# Altium integrated library Infineon_Power_MOSFET.IntLib: 1448 symbols (part 44 of 47)
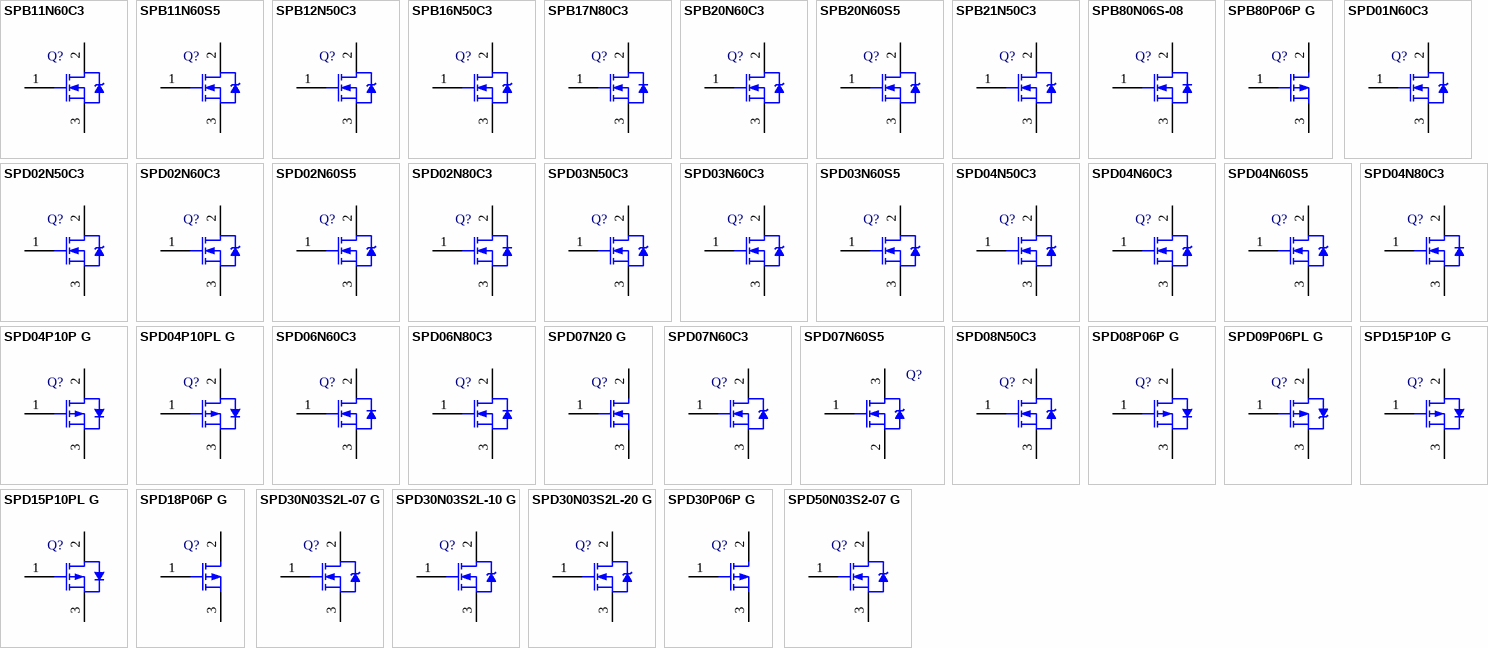
[diagram p80: symbols SPB11N60C3 to SPD50N03S2-07 G]

## SPD08P06P G
designator Q?
P-Channel SIPMOS Power-Transistor, -60 V VDS, -8.83 A ID, -55 to 175 degC, PG-TO252-3-1, Reel, Green; Manufacturer: Infineon; PartNumber: SPD08P06P G; Green: TRUE; ID (max): -8.83 A; IDpuls (max): -35.32 A; Pto t (max): 42 W; QG: -10 nC; RDS (on) (max): 300 mOhm; Rth: 3.6 K/W; VDS (max): -60 V; VGS(th) (max): -4 V; VGS(th) (min): -2.1 V; DatasheetVersion: Rev. 1.92; PackageVersion: Jan-10; PackageReference: PG-TO252-3-1; PackageDescription: 3-Pin Plastic (Green) Transistor Single Outline Package, 6.5 x 6.12 mm Body, 2.28 mm Pitch; Supplier 1: Mouser; Supplier Part Number 1: 726-SPD08P06PG; Supplier 2: Newark; Supplier Part Number 2: 47W3758; Supplier 3: Farnell; Supplier Part Number 3: 2212864; Supplier 4: Digi-Key; Supplier Part Number 4: SPD08P06PGINTR-ND; Supplier 5: Digi-Key; Supplier Part Number 5: SPD08P06PGINCT-ND; Supplier 6: Digi-Key; Supplier Part Number 6: SPD08P06PGINDKR-ND; Packing: Reel; RthJC (max): 3.6 K/W; Mounting Technology: Surface Mount; ComponentLink1Description: Manufacturer URL; ComponentLink1URL: http://www.infineon.com/; ComponentLink2Description: Datasheet; ComponentLink2URL: http://www.infineon.com/dgdl/SPD08P06P+G_Rev.1.92.pdf?folderId=db3a30431ed1d7b2011f4042f2ff4ec5&fileId=db3a30431ed1d7b2011f40433a224ec6; ComponentLink3Description: Package Specification; ComponentLink3URL: http://www.infineon.com/dgdl/TLE42744_DS_11.pdf?folderId=db3a304318f3fe290118f5a433570040&fileId=db3a304327b897500128012ccafe37d2&sId=db3a30443d67b5ca013d83f7c0ea327b
footprint INF-PG-TO252-3-1_N (DPAK, 3-Leads, Body 6.525x6.12mm, Pitch 2.28mm, IPC Medium Density)
footprint INF-PG-TO252-3-1_L (DPAK, 3-Leads, Body 6.525x6.12mm, Pitch 2.28mm, IPC High Density)
footprint INF-PG-TO252-3-1_M (DPAK, 3-Leads, Body 6.525x6.12mm, Pitch 2.28mm, IPC Low Density)
pins: 1 GATE, 2 DRAIN, 3 SOURCE

## SPD09P06PL G
designator Q?
P-Channel SIPMOS Power-Transistor, -60 V VDS, -9.7 A ID, -55 to 175 degC, PG-TO252-3-1, Reel, Green; Manufacturer: Infineon; PartNumber: SPD09P06PL G; Green: TRUE; ID (max): -9.7 A; IDpuls (max): -38.8 A; Pto t (max): 42 W; QG: 14 nC; RDS (on) (max): 250 mOhm; RDS (on) (max) (@4.5V): 400 mOhm; Rth: 3.6 K/W; VDS (max): -60 V; VGS(th) (max): -2 V; VGS(th) (min): -1 V; DatasheetVersion: Rev 2.6; PackageVersion: Jan-10; PackageReference: PG-TO252-3-1; PackageDescription: 3-Pin Plastic (Green) Transistor Single Outline Package, 6.5 x 6.12 mm Body, 2.28 mm Pitch; Supplier 1: Mouser; Supplier Part Number 1: 726-SPD09P06PLG; Supplier 2: Digi-Key; Supplier Part Number 2: SPD09P06PL GTR-ND; Supplier 3: Digi-Key; Supplier Part Number 3: SPD09P06PL GCT-ND; Supplier 4: Digi-Key; Supplier Part Number 4: SPD09P06PL GDKR-ND; Packing: Reel; RthJC (max): 3.6 K/W; Mounting Technology: Surface Mount; ComponentLink1Description: Manufacturer URL; ComponentLink1URL: http://www.infineon.com/; ComponentLink2Description: Datasheet; ComponentLink2URL: http://www.infineon.com/dgdl/SPD09P06PL+Rev2.6.pdf?folderId=db3a30431ed1d7b2011f4042f2ff4ec5&fileId=db3a30431ed1d7b2011f40486c6a4ed4; ComponentLink3Description: Package Specification; ComponentLink3URL: http://www.infineon.com/dgdl/TLE42744_DS_11.pdf?folderId=db3a304318f3fe290118f5a433570040&fileId=db3a304327b897500128012ccafe37d2&sId=db3a30443d67b5ca013d83f7c0ea327b
footprint INF-PG-TO252-3-1_N (DPAK, 3-Leads, Body 6.525x6.12mm, Pitch 2.28mm, IPC Medium Density)
footprint INF-PG-TO252-3-1_L (DPAK, 3-Leads, Body 6.525x6.12mm, Pitch 2.28mm, IPC High Density)
footprint INF-PG-TO252-3-1_M (DPAK, 3-Leads, Body 6.525x6.12mm, Pitch 2.28mm, IPC Low Density)
pins: 1 GATE, 2 DRAIN, 3 SOURCE

## SPD15P10P G
designator Q?
P-Channel SIPMOS Small-Signal-Transistor, -100 V VDS, -15 A ID, -55 to 175 degC, PG-TO252-3-1, Reel, Green; Manufacturer: Infineon; PartNumber: SPD15P10P G; Green: TRUE; ID (max): -15 A; IDpuls (max): -60 A; Mode: Enhancement; Polarity: P; Pto t (max): 128 W; QG: 37 nC; RDS (on) (max): 240 mOhm; Rth: 1.17 K/W; VDS (max): -100 V; VGS(th) (max): -4 V; VGS(th) (min): -2.1 V; DatasheetVersion: Rev. 1.8; PackageVersion: Jan-10; PackageReference: PG-TO252-3-1; PackageDescription: 3-Pin Plastic (Green) Transistor Single Outline Package, 6.5 x 6.12 mm Body, 2.28 mm Pitch; Supplier 1: Mouser; Supplier Part Number 1: 726-SPD15P10PG; Supplier 2: Newark; Supplier Part Number 2: 47W3759; Supplier 3: Farnell; Supplier Part Number 3: 2212847; Supplier 4: Digi-Key; Supplier Part Number 4: SPD15P10P G-ND; Packing: Reel; RthJC (max): 1.17 K/W; Technology: SIPMOS; Mounting Technology: Surface Mount; ComponentLink1Description: Manufacturer URL; ComponentLink1URL: http://www.infineon.com/; ComponentLink2Description: Datasheet; ComponentLink2URL: http://www.infineon.com/dgdl/SPD15P10P+G_Rev1.8.pdf?folderId=db3a304412b407950112b408e8c90004&fileId=db3a304412b407950112b42aa02743bc; ComponentLink3Description: Package Specification; ComponentLink3URL: http://www.infineon.com/dgdl/TLE42744_DS_11.pdf?folderId=db3a304318f3fe290118f5a433570040&fileId=db3a304327b897500128012ccafe37d2&sId=db3a30443d67b5ca013d83f7c0ea327b
footprint INF-PG-TO252-3-1_N (DPAK, 3-Leads, Body 6.525x6.12mm, Pitch 2.28mm, IPC Medium Density)
footprint INF-PG-TO252-3-1_L (DPAK, 3-Leads, Body 6.525x6.12mm, Pitch 2.28mm, IPC High Density)
footprint INF-PG-TO252-3-1_M (DPAK, 3-Leads, Body 6.525x6.12mm, Pitch 2.28mm, IPC Low Density)
pins: 1 GATE, 2 DRAIN, 3 SOURCE

## SPD15P10PL G
designator Q?
P-Channel SIPMOS Power-Transistor, -100 V VDS, -15 A ID, -55 to 175 degC, PG-TO252-3-1, Reel, Green; Manufacturer: Infineon; PartNumber: SPD15P10PL G; Green: TRUE; ID (max): -15 A; IDpuls (max): -60 A; Mode: Enhancement; Polarity: P; Pto t (max): 128 W; QG: 47 nC; RDS (on) (max): 200 mOhm; RDS (on) (max) (@4.5V): 270 mOhm; Rth: 1.17 K/W; VDS (max): -100 V; VGS(th) (max): -2 V; VGS(th) (min): -1 V; DatasheetVersion: Rev. 1.5; PackageVersion: Jan-10; PackageReference: PG-TO252-3-1; PackageDescription: 3-Pin Plastic (Green) Transistor Single Outline Package, 6.5 x 6.12 mm Body, 2.28 mm Pitch; Supplier 1: Mouser; Supplier Part Number 1: 726-SPD15P10PLG; Supplier 2: Newark; Supplier Part Number 2: 47W3760; Supplier 3: Farnell; Supplier Part Number 3: 2212846; Supplier 4: Digi-Key; Supplier Part Number 4: SPD15P10PL G-ND; Packing: Reel; Technology: SIPMOS; Mounting Technology: Surface Mount; ComponentLink1Description: Manufacturer URL; ComponentLink1URL: http://www.infineon.com/; ComponentLink2Description: Datasheet; ComponentLink2URL: http://www.infineon.com/dgdl/SPD15P10PL%2BG_Rev1.5.pdf?folderId=db3a304314dca38901154a72e3951a65&fileId=db3a30433c1a8752013c39ff5f2e4af3; ComponentLink3Description: Package Specification; ComponentLink3URL: http://www.infineon.com/dgdl/TLE42744_DS_11.pdf?folderId=db3a304318f3fe290118f5a433570040&fileId=db3a304327b897500128012ccafe37d2&sId=db3a30443d67b5ca013d83f7c0ea327b
footprint INF-PG-TO252-3-1_N (DPAK, 3-Leads, Body 6.525x6.12mm, Pitch 2.28mm, IPC Medium Density)
footprint INF-PG-TO252-3-1_L (DPAK, 3-Leads, Body 6.525x6.12mm, Pitch 2.28mm, IPC High Density)
footprint INF-PG-TO252-3-1_M (DPAK, 3-Leads, Body 6.525x6.12mm, Pitch 2.28mm, IPC Low Density)
pins: 1 GATE, 2 DRAIN, 3 SOURCE

## SPD18P06P G
designator Q?
P-Channel SIPMOS Power-Transistor, -60 V VDS, -18.6 A ID, -55 to 175 degC, PG-TO252-3-1, Reel, Green; Manufacturer: Infineon; PartNumber: SPD18P06P G; Green: TRUE; ID (max): -18.6 A; IDpuls (max): -74.4 A; Pto t (max): 80 W; QG: 22 nC; RDS (on) (max): 130 mOhm; Rth: 1.85 K/W; VDS (max): -60 V; VGS(th) (max): -4 V; VGS(th) (min): -2.1 V; DatasheetVersion: Rev 3.4; PackageVersion: Jan-10; PackageReference: PG-TO252-3-1; PackageDescription: 3-Pin Plastic (Green) Transistor Single Outline Package, 6.5 x 6.12 mm Body, 2.28 mm Pitch; Supplier 1: Mouser; Supplier Part Number 1: 726-SPD18P06P; Supplier 2: Newark; Supplier Part Number 2: 47W3761; Supplier 3: Farnell; Supplier Part Number 3: 2212859; Supplier 4: Digi-Key; Supplier Part Number 4: SPD18P06P GTR-ND; Supplier 5: Digi-Key; Supplier Part Number 5: SPD18P06P GCT-ND; Supplier 6: Digi-Key; Supplier Part Number 6: SPD18P06P GDKR-ND; Packing: Reel; RthJC (max): 1.85 K/W; Mounting Technology: Surface Mount; ComponentLink1Description: Manufacturer URL; ComponentLink1URL: http://www.infineon.com/; ComponentLink2Description: Datasheet; ComponentLink2URL: http://www.infineon.com/dgdl/SPD18P06P_Rev.3.4_.pdf?folderId=db3a30431ed1d7b2011f4042f2ff4ec5&fileId=db3a30431ed1d7b2011f404c85eb4ee3; ComponentLink3Description: Package Specification; ComponentLink3URL: http://www.infineon.com/dgdl/TLE42744_DS_11.pdf?folderId=db3a304318f3fe290118f5a433570040&fileId=db3a304327b897500128012ccafe37d2&sId=db3a30443d67b5ca013d83f7c0ea327b
footprint INF-PG-TO252-3-1_N (DPAK, 3-Leads, Body 6.525x6.12mm, Pitch 2.28mm, IPC Medium Density)
footprint INF-PG-TO252-3-1_L (DPAK, 3-Leads, Body 6.525x6.12mm, Pitch 2.28mm, IPC High Density)
footprint INF-PG-TO252-3-1_M (DPAK, 3-Leads, Body 6.525x6.12mm, Pitch 2.28mm, IPC Low Density)
pins: 1 G, 2 D, 3 S

## SPD30N03S2L-07 G
designator Q?
N-Channel OptiMOS Power-Transistor, 30 V VDS, 30 A ID, -55 to 175 degC, PG-TO252-3-11, Reel, Green; Manufacturer: Infineon; PartNumber: SPD30N03S2L-07 G; Green: TRUE; ID (max): 30 A; IDpuls (max): 120 A; Polarity: N; Ptot (max): 136 W; QG: 51 nC; RDS (on) (max): 6.7 mOhm; RDS (on) (max) (@4.5V): 9.8 mOhm; Rth: 1.1 K/W; RthJA (max): 100 K/W; VDS (max): 30 V; VGS(th) (max): 2 V; VGS(th) (min): 1.2 V; PackageVersion: Rev. 02, 03/2007; PackageReference: PG-TO252-3-11; PackageDescription: 3-Pin Plastic (Green) Transistor Single Outline Package, 6.57 x 6.1 mm Body, 2.29 mm Pitch; Supplier 1: Digi-Key; Supplier Part Number 1: SPD30N03S2L-07 G-ND; Packing: Reel; RthJC (max): 1.1 K/W; Mounting Technology: Surface Mount; ComponentLink1Description: Manufacturer URL; ComponentLink1URL: http://www.infineon.com/; ComponentLink2Description: Datasheet; ComponentLink2URL: http://www.infineon.com/dgdl/SPD30N03S2L-07+rev+1.2.pdf?folderId=db3a304313b8b5a60113cee8763b02d7&fileId=db3a30431b3e89eb011b92c6dcba0f89; ComponentLink3Description: Package Specification; ComponentLink3URL: http://www.infineon.com/dgdl/IPD160N04L_rev1.0.pdf?folderId=db3a3043163797a6011643468e7505a4&fileId=db3a3043163797a60116436401cf05cf
footprint INF-PG-TO252-3-11_A_N (DPAK, 3-Leads, Body 6.57x6.1mm, Pitch 2.29mm, IPC Medium Density)
footprint INF-PG-TO252-3-11_A_L (DPAK, 3-Leads, Body 6.57x6.1mm, Pitch 2.29mm, IPC High Density)
footprint INF-PG-TO252-3-11_A_M (DPAK, 3-Leads, Body 6.57x6.1mm, Pitch 2.29mm, IPC Low Density)
pins: 1 GATE, 2 DRAIN, 3 SOURCE

## SPD30N03S2L-10 G
designator Q?
N-Channel OptiMOS Power-Transistor, 30 V VDS, 30 A ID, -55 to 175 degC, PG-TO252-3-11, Reel, Green; Manufacturer: Infineon; PartNumber: SPD30N03S2L-10 G; Green: TRUE; ID (max): 30 A; IDpuls (max): 120 A; Polarity: N; Ptot (max): 100 W; QG: 31.4 nC; RDS (on) (max): 10 mOhm; RDS (on) (max) (@4.5V): 14.6 mOhm; Rth: 1.5 K/W; RthJA (max): 75 K/W; RthJC (max): 1.5 K/W; VDS (max): 30 V; VGS(th) (max): 2 V; VGS(th) (min): 1.2 V; PackageVersion: Rev. 02, 03/2007; PackageReference: PG-TO252-3-11; PackageDescription: 3-Pin Plastic (Green) Transistor Single Outline Package, 6.57 x 6.1 mm Body, 2.29 mm Pitch; Supplier 1: Mouser; Supplier Part Number 1: 726-SPD30N03S2L10G; Supplier 2: Digi-Key; Supplier Part Number 2: SPD30N03S2L-10 G-ND; Packing: Reel; Mounting Technology: Surface Mount; ComponentLink1Description: Manufacturer URL; ComponentLink1URL: http://www.infineon.com/; ComponentLink2Description: Datasheet; ComponentLink2URL: http://www.infineon.com/dgdl/SPD30N03S2L-10+rev+1.2.pdf?folderId=db3a304313b8b5a60113cee8763b02d7&fileId=db3a30431b3e89eb011b96e752ea0e08; ComponentLink3Description: Package Specification; ComponentLink3URL: http://www.infineon.com/dgdl/IPD160N04L_rev1.0.pdf?folderId=db3a3043163797a6011643468e7505a4&fileId=db3a3043163797a60116436401cf05cf
footprint INF-PG-TO252-3-11_A_N (DPAK, 3-Leads, Body 6.57x6.1mm, Pitch 2.29mm, IPC Medium Density)
footprint INF-PG-TO252-3-11_A_L (DPAK, 3-Leads, Body 6.57x6.1mm, Pitch 2.29mm, IPC High Density)
footprint INF-PG-TO252-3-11_A_M (DPAK, 3-Leads, Body 6.57x6.1mm, Pitch 2.29mm, IPC Low Density)
pins: 1 GATE, 2 DRAIN, 3 SOURCE

## SPD30N03S2L-20 G
designator Q?
N-Channel OptiMOS Power-Transistor, 30 V VDS, 30 A ID, -55 to 175 degC, PG-TO252-3-11, Reel, Green; Manufacturer: Infineon; PartNumber: SPD30N03S2L-20 G; Green: TRUE; ID (max): 30 A; IDpuls (max): 120 A; Polarity: N; Ptot (max): 60 W; QG: 14.3 nC; RDS (on) (max): 20 mOhm; RDS (on) (max) (@4.5V): 31 mOhm; Rth: 2.5 K/W; RthJA (max): 100 K/W; VDS (max): 30 V; VGS(th) (max): 2 V; VGS(th) (min): 1.2 V; PackageVersion: Rev. 02, 03/2007; PackageReference: PG-TO252-3-11; PackageDescription: 3-Pin Plastic (Green) Transistor Single Outline Package, 6.57 x 6.1 mm Body, 2.29 mm Pitch; Supplier 1: Digi-Key; Supplier Part Number 1: SPD30N03S2L-20 GTR-ND; Supplier 2: Digi-Key; Supplier Part Number 2: SPD30N03S2L-20 GCT-ND; Supplier 3: Digi-Key; Supplier Part Number 3: SPD30N03S2L-20 GDKR-ND; Packing: Reel; RthJC (max): 2.5 K/W; Mounting Technology: Surface Mount; ComponentLink1Description: Manufacturer URL; ComponentLink1URL: http://www.infineon.com/; ComponentLink2Description: Datasheet; ComponentLink2URL: http://www.infineon.com/dgdl/SPD30N03S2L-20+rev+1.2.pdf?folderId=db3a304313b8b5a60113cee8763b02d7&fileId=db3a30431b3e89eb011b96f227b90e19; ComponentLink3Description: Package Specification; ComponentLink3URL: http://www.infineon.com/dgdl/IPD160N04L_rev1.0.pdf?folderId=db3a3043163797a6011643468e7505a4&fileId=db3a3043163797a60116436401cf05cf
footprint INF-PG-TO252-3-11_A_N (DPAK, 3-Leads, Body 6.57x6.1mm, Pitch 2.29mm, IPC Medium Density)
footprint INF-PG-TO252-3-11_A_L (DPAK, 3-Leads, Body 6.57x6.1mm, Pitch 2.29mm, IPC High Density)
footprint INF-PG-TO252-3-11_A_M (DPAK, 3-Leads, Body 6.57x6.1mm, Pitch 2.29mm, IPC Low Density)
pins: 1 GATE, 2 DRAIN, 3 SOURCE

## SPD30P06P G
designator Q?
P-Channel SIPMOS Power-Transistor, -60 V VDS, -30 A ID, -55 to 175 degC, PG-TO252-3-1, Reel, Green; Manufacturer: Infineon; PartNumber: SPD30P06P G; Green: TRUE; ID (max): -30 A; IDpuls (max): -120 A; Pto t (max): 125 W; QG: 32 nC; RDS (on) (max): 75 mOhm; Rth: 1.2 K/W; VDS (max): -60 V; VGS(th) (max): -4 V; VGS(th) (min): -2.1 V; DatasheetVersion: Rev. 2.3; PackageVersion: Jan-10; PackageReference: PG-TO252-3-1; PackageDescription: 3-Pin Plastic (Green) Transistor Single Outline Package, 6.5 x 6.12 mm Body, 2.28 mm Pitch; Supplier 1: Mouser; Supplier Part Number 1: 726-SPD30P06PG; Supplier 2: Digi-Key; Supplier Part Number 2: SPD30P06P GTR-ND; Supplier 3: Digi-Key; Supplier Part Number 3: SPD30P06P GCT-ND; Supplier 4: Digi-Key; Supplier Part Number 4: SPD30P06P GDKR-ND; Packing: Reel; RthJC (max): 1.2 K/W; Mounting Technology: Surface Mount; ComponentLink1Description: Manufacturer URL; ComponentLink1URL: http://www.infineon.com/; ComponentLink2Description: Datasheet; ComponentLink2URL: http://www.infineon.com/dgdl/SPD30P06P_Rev.2.3_pdf.pdf?folderId=db3a30431ed1d7b2011f4042f2ff4ec5&fileId=db3a30431ed1d7b2011f404fbc7e4ef4; ComponentLink3Description: Package Specification; ComponentLink3URL: http://www.infineon.com/dgdl/TLE42744_DS_11.pdf?folderId=db3a304318f3fe290118f5a433570040&fileId=db3a304327b897500128012ccafe37d2&sId=db3a30443d67b5ca013d83f7c0ea327b
footprint INF-PG-TO252-3-1_N (DPAK, 3-Leads, Body 6.525x6.12mm, Pitch 2.28mm, IPC Medium Density)
footprint INF-PG-TO252-3-1_L (DPAK, 3-Leads, Body 6.525x6.12mm, Pitch 2.28mm, IPC High Density)
footprint INF-PG-TO252-3-1_M (DPAK, 3-Leads, Body 6.525x6.12mm, Pitch 2.28mm, IPC Low Density)
pins: 1 G, 2 D, 3 S

## SPD50N03S2-07 G
designator Q?
N-Channel OptiMOS Power-Transistor, 30 V VDS, 50 A ID, -55 to 175 degC, PG-TO252-3-11, Reel, Green; Manufacturer: Infineon; PartNumber: SPD50N03S2-07 G; Green: TRUE; ID (max): 50 A; IDpuls (max): 200 A; Polarity: N; Ptot (max): 136 W; QG: 35 nC; RDS (on) (max): 7.3 mOhm; Rth: 1.1 K/W; RthJA (max): 100 K/W; VDS (max): 30 V; VGS(th) (max): 4 V; VGS(th) (min): 2.1 V; PackageVersion: Rev. 02, 03/2007; PackageReference: PG-TO252-3-11; PackageDescription: 3-Pin Plastic (Green) Transistor Single Outline Package, 6.57 x 6.1 mm Body, 2.29 mm Pitch; Supplier 1: Mouser; Supplier Part Number 1: 726-SPD50N03726S207G; Supplier 2: Digi-Key; Supplier Part Number 2: SPD50N03S2-07 GTR-ND; Supplier 3: Digi-Key; Supplier Part Number 3: SPD50N03S2-07 GCT-ND; Supplier 4: Digi-Key; Supplier Part Number 4: SPD50N03S2-07 GDKR-ND; Packing: Reel; RthJC (max): 1.1 K/W; Mounting Technology: Surface Mount; ComponentLink1Description: Manufacturer URL; ComponentLink1URL: http://www.infineon.com/; ComponentLink2Description: Datasheet; ComponentLink2URL: http://www.infineon.com/dgdl/SPD50N03S2-07+rev+1.2.pdf?folderId=db3a304313b8b5a60113cee8763b02d7&fileId=db3a30431b3e89eb011b97117df80e2a; ComponentLink3Description: Package Specification; ComponentLink3URL: http://www.infineon.com/dgdl/IPD160N04L_rev1.0.pdf?folderId=db3a3043163797a6011643468e7505a4&fileId=db3a3043163797a60116436401cf05cf
footprint INF-PG-TO252-3-11_A_N (DPAK, 3-Leads, Body 6.57x6.1mm, Pitch 2.29mm, IPC Medium Density)
footprint INF-PG-TO252-3-11_A_L (DPAK, 3-Leads, Body 6.57x6.1mm, Pitch 2.29mm, IPC High Density)
footprint INF-PG-TO252-3-11_A_M (DPAK, 3-Leads, Body 6.57x6.1mm, Pitch 2.29mm, IPC Low Density)
pins: 1 GATE, 2 DRAIN, 3 SOURCE

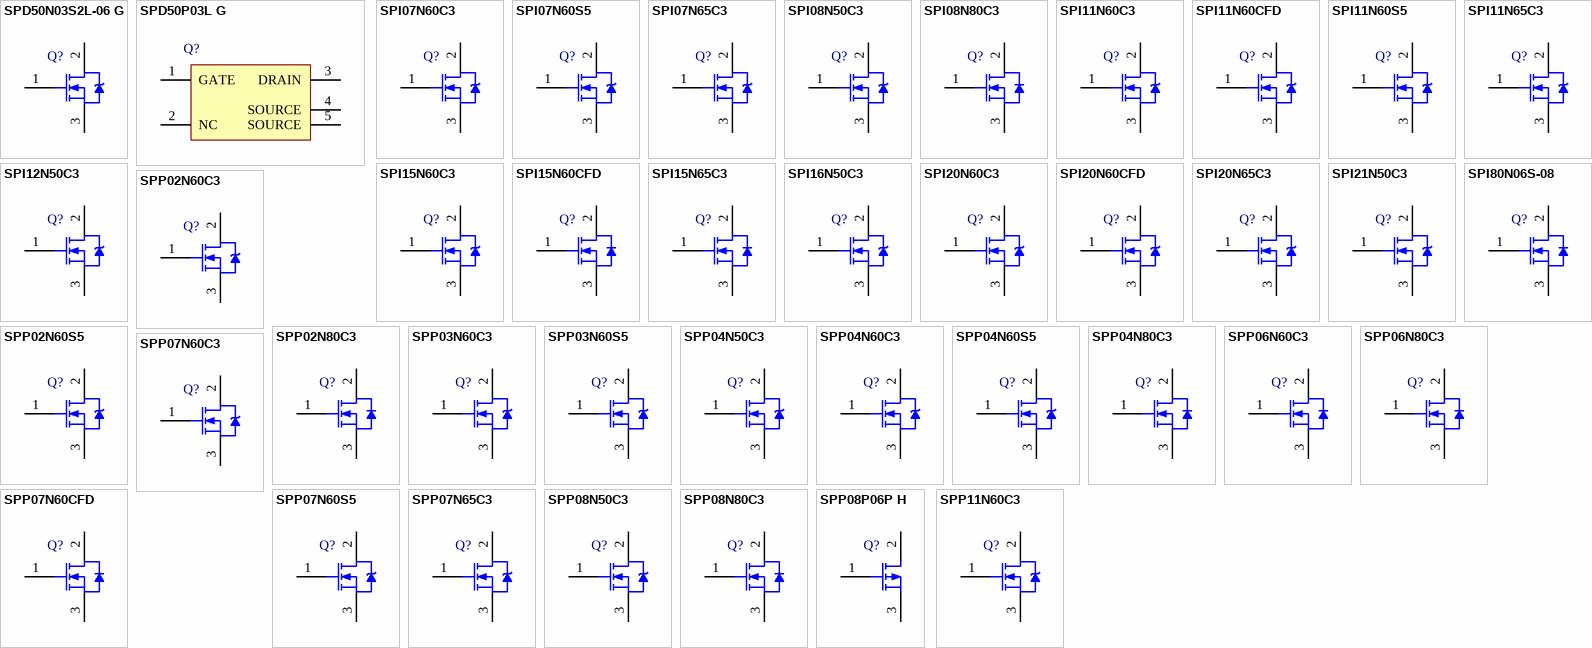
[diagram p35: symbols SPD50N03S2L-06 G to SPP11N60C3]

## SPD50N03S2L-06 G
designator Q?
N-Channel OptiMOS Power-Transistor, 30 V VDS, 50 A ID, -55 to 175 degC, PG-TO252-3-11, Reel, Green; Manufacturer: Infineon; PartNumber: SPD50N03S2L-06 G; Green: TRUE; ID (max): 50 A; IDpuls (max): 200 A; Polarity: N; Ptot (max): 136 W; QG: 52 nC; RDS (on) (max): 6.4 mOhm; RDS (on) (max) (@4.5V): 9.2 mOhm; Rth: 1.1 K/W; RthJA (max): 100 K/W; VDS (max): 30 V; VGS(th) (max): 2 V; VGS(th) (min): 1.2 V; PackageVersion: Rev. 02, 03/2007; PackageReference: PG-TO252-3-11; PackageDescription: 3-Pin Plastic (Green) Transistor Single Outline Package, 6.57 x 6.1 mm Body, 2.29 mm Pitch; Supplier 1: Mouser; Supplier Part Number 1: 726-SPD50N03726S2L6G; Supplier 2: Digi-Key; Supplier Part Number 2: SPD50N03S2L-06 GTR-ND; Supplier 3: Digi-Key; Supplier Part Number 3: SPD50N03S2L-06 GCT-ND; Supplier 4: Digi-Key; Supplier Part Number 4: SPD50N03S2L-06 GDKR-ND; Packing: Reel; RthJC (max): 1.1 K/W; Mounting Technology: Surface Mount; ComponentLink1Description: Manufacturer URL; ComponentLink1URL: http://www.infineon.com/; ComponentLink2Description: Datasheet; ComponentLink2URL: http://www.infineon.com/dgdl/SPD50N03S2L-06+rev+1.2.pdf?folderId=db3a304313b8b5a60113cee8763b02d7&fileId=db3a30431b3e89eb011b9718a1a20e3c; ComponentLink3Description: Package Specification; ComponentLink3URL: http://www.infineon.com/dgdl/IPD160N04L_rev1.0.pdf?folderId=db3a3043163797a6011643468e7505a4&fileId=db3a3043163797a60116436401cf05cf
footprint INF-PG-TO252-3-11_A_N (DPAK, 3-Leads, Body 6.57x6.1mm, Pitch 2.29mm, IPC Medium Density)
footprint INF-PG-TO252-3-11_A_L (DPAK, 3-Leads, Body 6.57x6.1mm, Pitch 2.29mm, IPC High Density)
footprint INF-PG-TO252-3-11_A_M (DPAK, 3-Leads, Body 6.57x6.1mm, Pitch 2.29mm, IPC Low Density)
pins: 1 GATE, 2 DRAIN, 3 SOURCE

## SPD50P03L G
designator Q?
P-Channel OptiMOS P Power-Transistor, -30 V VDS, -50 A ID, -55 to 175 degC, PG-TO252-5-1, Reel, Green; Manufacturer: Infineon; PartNumber: SPD50P03L G; Green: TRUE; ID (max): -50 A; IDpuls (max): -200 A; Pto t (max): 150 W; QG: -95 nC; RDS (on) (max): 7 mOhm; RDS (on) (max) (@4.5V): 12.5 mOhm; Rth: 1 K/W; VDS (max): -30 V; VGS(th) (max): -2 V; VGS(th) (min): -1 V; DatasheetVersion: Rev. 1.9; PackageReference: PG-TO252-5-1; PackageDescription: 5-Pin Plastic (Green) Transistor Single Outline Package, 6.5 x 6.12 mm Body, 1.14 mm Pitch; Supplier 1: Mouser; Supplier Part Number 1: 726-SPD50P03LG; Supplier 2: Digi-Key; Supplier Part Number 2: SPD50P03LGINTR-ND; Supplier 3: Digi-Key; Supplier Part Number 3: SPD50P03LGINCT-ND; Supplier 4: Digi-Key; Supplier Part Number 4: SPD50P03LGINDKR-ND; Packing: Reel; RthJC (max): 1 K/W; Mounting Technology: Surface Mount; ComponentLink1Description: Manufacturer URL; ComponentLink1URL: http://www.infineon.com/; ComponentLink2Description: Datasheet; ComponentLink2URL: http://www.infineon.com/dgdl/SPD50P03LG_Rev+1.9.pdf?folderId=db3a304314dca38901154a7313d21a66&fileId=db3a3043156fd5730115c75829fc0ffa; ComponentLink3Description: Package Specification; ComponentLink3URL: http://www.infineon.com/cms/packages/SMD_-_Surface_Mounted_Devices/P-PG-TO252/P-PG-TO252-05-001.html?__locale=en
footprint INF-PG-TO252-5-1_N (DPAK, 5-Leads, Body 6.5x6.12mm, Pitch 1.14mm, IPC Medium Density)
footprint INF-PG-TO252-5-1_L (DPAK, 5-Leads, Body 6.5x6.12mm, Pitch 1.14mm, IPC High Density)
footprint INF-PG-TO252-5-1_M (DPAK, 5-Leads, Body 6.5x6.12mm, Pitch 1.14mm, IPC Low Density)
pins: 1 GATE, 2 NC, 3 DRAIN, 4 SOURCE, 5 SOURCE

## SPI07N60C3
designator Q?
N-Channel CoolMOS Power-Transistor, 600 V VDS, 7.3 A ID, -55 to 150 degC, PG-TO262-3-1, Tube, Green; Manufacturer: Infineon; PartNumber: SPI07N60C3; Green: TRUE; ID (max): 7.3 A; IDpuls (max): 21.9 A; Polarity: N; Ptot (max): 83 W; QG: 21 nC; RDS (on) (max): 600 mOhm; Rth: 1.5 K/W; RthJA (max): 62 K/W; VDS (max): 600 V; VGS(th) (max): 3.9 V; VGS(th) (min): 2.1 V; DatasheetVersion: Rev. 3.2; PackageReference: PG-TO262-3-1; PackageDescription: 3-Pin Plastic (Green) Transistor Single Outline Package, 10 x 9.25 mm Body, 2.54 mm Pitch; Supplier 1: Mouser; Supplier Part Number 1: 726-SPI07N60C3; Supplier 2: Digi-Key; Supplier Part Number 2: SPI07N60C3IN-ND; Packing: Tube; RthJC (max): 1.5 K/W; Technology: CoolMOS C3; Mounting Technology: Through Hole; ComponentLink1Description: Manufacturer URL; ComponentLink1URL: http://www.infineon.com/; ComponentLink2Description: Datasheet; ComponentLink2URL: http://www.infineon.com/dgdl/SPP_A_I07N60C3_Rev.3.2.pdf?folderId=db3a304412b407950112b408e8c90004&fileId=db3a304412b407950112b42de18b490c; ComponentLink3Description: Package Specification; ComponentLink3URL: http://www.infineon.com/cms/packages/Leaded_and_through-hole/P-PG-TO262/P-PG-TO262-3-1.html?__locale=en
footprint INF-PG-TO262-3-1 (FM, 3-Leads, Body 10x4.4mm, Pitch 2.54mm)
pins: 1 GATE, 2 DRAIN, 3 SOURCE

## SPI07N60S5
designator Q?
Cool MOS Power Transistor, 600 V VDS, 7.3 A ID, PG-TO262-3-1, Tube, Green; Manufacturer: Infineon; PartNumber: SPI07N60S5; Green: TRUE; ID (max): 7.3 A; Polarity: N; RDS (on) (max): 600 mOhm; VDS (max): 600 V; DatasheetVersion: Rev. 2.7; PackageVersion: Rev. 03, 05/2006; PackageReference: PG-TO262-3-1; PackageDescription: 3-Pin Plastic (Green) Transistor Single Outline Package, 10.03 x 8.98 mm Body, 2.54 mm Pitch; Supplier 1: Mouser; Supplier Part Number 1: 726-SPI07N60S5; Supplier 2: Digi-Key; Supplier Part Number 2: SPI07N60S5IN-ND; Halogen-free: FALSE; Packing: Tube; Mounting Technology: Through Hole; ComponentLink1Description: Manufacturer URL; ComponentLink1URL: http://www.infineon.com/; ComponentLink2Description: Datasheet; ComponentLink2URL: http://www.infineon.com/dgdl/SPP_I07N60S5_Rev.2.7.pdf?folderId=db3a304412b407950112b408e8c90004&fileId=db3a304412b407950112b42c81144713; ComponentLink3Description: Package Specification; ComponentLink3URL: http://www.infineon.com/dgdl/DS_IPX65R420CFD_2_4.pdf?folderId=db3a3043156fd5730115c736bcc70ff2&fileId=db3a30432f91014f012f9c293f1a7399
footprint INF-PG-TO262-3-1_A (FM, 3-Leads, Body 10.03x4.436mm, Pitch 2.54mm)
pins: 1 GATE, 2 DRAIN, 3 SOURCE

## SPI07N65C3
designator Q?
N-Channel CoolMOS Power-Transistor, 650 V VDS, 7.3 A ID, -55 to 150 degC, PG-TO262-3-1, Tube, Green; Manufacturer: Infineon; PartNumber: SPI07N65C3; Green: TRUE; ID (max): 7.3 A; IDpuls (max): 21.9 A; Mode: Enhancement; Polarity: N; Ptot (max): 83 W; QG: 21 nC; RDS (on) (max): 600 mOhm; Rth: 1.5 K/W; RthJA (max): 62 K/W; VDS (max): 650 V; VGS(th) (max): 3.9 V; VGS(th) (min): 2.1 V; DatasheetVersion: Rev. 1.91; PackageReference: PG-TO262-3-1; PackageDescription: 3-Pin Plastic (Green) Transistor Single Outline Package, 10 x 9.25 mm Body, 2.54 mm Pitch; Supplier 1: Mouser; Supplier Part Number 1: 726-SPI07N65C3; Supplier 2: Digi-Key; Supplier Part Number 2: SPI07N65C3IN-ND; Packing: Tube; RthJC (max): 1.5 K/W; Technology: CoolMOS C3; Mounting Technology: Through Hole; ComponentLink1Description: Manufacturer URL; ComponentLink1URL: http://www.infineon.com/; ComponentLink2Description: Datasheet; ComponentLink2URL: http://www.infineon.com/dgdl/SPP_A_I07N65C3_Rev.1.91.pdf?folderId=db3a304412b407950112b408e8c90004&fileId=db3a304412b407950112b42ea7e74a0b; ComponentLink3Description: Package Specification; ComponentLink3URL: http://www.infineon.com/cms/packages/Leaded_and_through-hole/P-PG-TO262/P-PG-TO262-3-1.html?__locale=en
footprint INF-PG-TO262-3-1 (FM, 3-Leads, Body 10x4.4mm, Pitch 2.54mm)
pins: 1 GATE, 2 DRAIN, 3 SOURCE

## SPI08N50C3
designator Q?
N-Channel CoolMOS Power-Transistor, 500 V VDS, 7.6 A ID, -55 to 150 degC, PG-TO262-3-1, Tube, Green; Manufacturer: Infineon; PartNumber: SPI08N50C3; Green: TRUE; ID (max): 7.6 A; IDpuls (max): 22.8 A; Polarity: N; Ptot (max): 83 W; QG: 32 nC; RDS (on) (max): 600 mOhm; Rth: 1.5 K/W; RthJA (max): 62 K/W; VDS (max): 500 V; VGS(th) (max): 3.9 V; VGS(th) (min): 2.1 V; DatasheetVersion: Rev. 2.91; PackageReference: PG-TO262-3-1; PackageDescription: 3-Pin Plastic (Green) Transistor Single Outline Package, 10 x 9.25 mm Body, 2.54 mm Pitch; Supplier 1: Mouser; Supplier Part Number 1: 726-SPI08N50C3; Supplier 2: Digi-Key; Supplier Part Number 2: SPI08N50C3IN-ND; Packing: Tube; RthJC (max): 1.5 K/W; Technology: CoolMOS C3; Mounting Technology: Through Hole; ComponentLink1Description: Manufacturer URL; ComponentLink1URL: http://www.infineon.com/; ComponentLink2Description: Datasheet; ComponentLink2URL: http://www.infineon.com/dgdl/SPP_I_A08N50C3_Rev.2.91.pdf?folderId=db3a304412b407950112b408e8c90004&fileId=db3a304412b407950112b42d13a947ff; ComponentLink3Description: Package Specification; ComponentLink3URL: http://www.infineon.com/cms/packages/Leaded_and_through-hole/P-PG-TO262/P-PG-TO262-3-1.html?__locale=en
footprint INF-PG-TO262-3-1 (FM, 3-Leads, Body 10x4.4mm, Pitch 2.54mm)
pins: 1 GATE, 2 DRAIN, 3 SOURCE

## SPI08N80C3
designator Q?
N-Channel CoolMOS Power-Transistor, 800 V VDS, 8 A ID, -55 to 150 degC, PG-TO262-3-1, Tube, Green; Manufacturer: Infineon; PartNumber: SPI08N80C3; Green: TRUE; ID (max): 8 A; IDpuls (max): 24 A; Polarity: N; Ptot (max): 104 W; QG: 45 nC; RDS (on) (max): 650 mOhm; Rth: 1.2 K/W; RthJA (max): 62 K/W; VDS (max): 800 V; VGS(th) (max): 3.9 V; VGS(th) (min): 2.1 V; DatasheetVersion: Rev. 2.91; PackageReference: PG-TO262-3-1; PackageDescription: 3-Pin Plastic (Green) Transistor Single Outline Package, 10 x 9.25 mm Body, 2.54 mm Pitch; Supplier 1: Mouser; Supplier Part Number 1: 726-SPI08N80C3; Supplier 2: Digi-Key; Supplier Part Number 2: SPI08N80C3IN-ND; Halogen-free: TRUE; Packing: Tube; RthJC (max): 1.2 K/W; Technology: CoolMOS C3; Mounting Technology: Through Hole; ComponentLink1Description: Manufacturer URL; ComponentLink1URL: http://www.infineon.com/; ComponentLink2Description: Datasheet; ComponentLink2URL: http://www.infineon.com/dgdl/SPI08N80C3_rev2.91.pdf?folderId=db3a3043163797a6011638491238009b&fileId=db3a30432313ff5e0123a8e336925c47; ComponentLink3Description: Package Specification; ComponentLink3URL: http://www.infineon.com/cms/packages/Leaded_and_through-hole/P-PG-TO262/P-PG-TO262-3-1.html?__locale=en
footprint INF-PG-TO262-3-1 (FM, 3-Leads, Body 10x4.4mm, Pitch 2.54mm)
pins: 1 GATE, 2 DRAIN, 3 SOURCE

## SPI11N60C3
designator Q?
N-Channel CoolMOS Power-Transistor, 600 V VDS, 11 A ID, -55 to 150 degC, PG-TO262-3-1, Tube, Green; Manufacturer: Infineon; PartNumber: SPI11N60C3; Green: TRUE; ID (max): 11 A; IDpuls (max): 33 A; Polarity: N; Ptot (max): 125 W; QG: 45 nC; RDS (on) (max): 380 mOhm; Rth: 1 K/W; RthJA (max): 62 K/W; VDS (max): 600 V; VGS(th) (max): 3.9 V; VGS(th) (min): 2.1 V; DatasheetVersion: Rev. 3.3; PackageReference: PG-TO262-3-1; PackageDescription: 3-Pin Plastic (Green) Transistor Single Outline Package, 10 x 9.25 mm Body, 2.54 mm Pitch; Supplier 1: Mouser; Supplier Part Number 1: 726-SPI11N60C3; Supplier 2: Digi-Key; Supplier Part Number 2: SPI11N60C3IN-ND; Packing: Tube; RthJC (max): 1 K/W; Technology: CoolMOS C3; Mounting Technology: Through Hole; ComponentLink1Description: Manufacturer URL; ComponentLink1URL: http://www.infineon.com/; ComponentLink2Description: Datasheet; ComponentLink2URL: http://www.infineon.com/dgdl/SPP_I_A11N60C3_E8185_Rev.3.3.pdf?folderId=db3a304412b407950112b408e8c90004&fileId=db3a304412b407950112b42e2e114971; ComponentLink3Description: Package Specification; ComponentLink3URL: http://www.infineon.com/cms/packages/Leaded_and_through-hole/P-PG-TO262/P-PG-TO262-3-1.html?__locale=en
footprint INF-PG-TO262-3-1 (FM, 3-Leads, Body 10x4.4mm, Pitch 2.54mm)
pins: 1 GATE, 2 DRAIN, 3 SOURCE

## SPI11N60CFD
designator Q?
N-Channel CoolMOS Power-Transistor, 600 V VDS, 11 A ID, -55 to 150 degC, PG-TO-262-3-1, Tube, Green; Manufacturer: Infineon; PartNumber: SPI11N60CFD; Green: TRUE; ID (max): 11 A; IDpuls (max): 28 A; Polarity: N; Ptot (max): 125 W; QG: 48 nC; RDS (on) (max): 440 mOhm; Rth: 1 K/W; RthJA (max): 62 K/W; VDS (max): 600 V; VGS(th) (max): 5 V; VGS(th) (min): 3 V; DatasheetVersion: Rev. 2.6; PackageVersion: Jun-05; PackageReference: PG-TO-262-3-1; PackageDescription: 3-Pin Plastic (Green) Transistor Single Outline Package, 10 x 9.25 mm Body, 2.54 mm Pitch; Supplier 1: Mouser; Supplier Part Number 1: 726-SPI11N60CFD; Supplier 2: Digi-Key; Supplier Part Number 2: SPI11N60CFD-ND; Packing: Tube; RthJC (max): 1 K/W; Technology: CoolMOS CFD; Mounting Technology: Through Hole; ComponentLink1Description: Manufacturer URL; ComponentLink1URL: http://www.infineon.com/; ComponentLink2Description: Datasheet; ComponentLink2URL: http://www.infineon.com/dgdl/SPI11N60CFD_Rev.2.6.pdf?folderId=db3a304412b407950112b408e8c90004&fileId=db3a304412b407950112b42e803149db; ComponentLink3Description: Package Specification; ComponentLink3URL: http://www.infineon.com/dgdl/IPP04CN10N_Rev1.4.pdf?folderId=db3a304313b8b5a60113cee8763b02d7&fileId=db3a30432313ff5e012393a80d1d03d8
footprint INF-PG-TO-262-3-1 (FM, 3-Leads, Body 10x4.4mm, Pitch 2.54mm)
pins: 1 GATE, 2 DRAIN, 3 SOURCE

## SPI11N60S5
designator Q?
Cool MOS Power Transistor, 600 V VDS, 11 A ID, PG-TO262-3-1, Tube, Green; Manufacturer: Infineon; PartNumber: SPI11N60S5; Green: TRUE; ID (max): 11 A; Polarity: N; RDS (on) (max): 340 mOhm; VDS (max): 600 V; DatasheetVersion: Rev. 2.6; PackageVersion: Rev. 03, 05/2006; PackageReference: PG-TO262-3-1; PackageDescription: 3-Pin Plastic (Green) Transistor Single Outline Package, 10.03 x 8.98 mm Body, 2.54 mm Pitch; Supplier 1: Mouser; Supplier Part Number 1: 726-SPI11N60S5; Supplier 2: Digi-Key; Supplier Part Number 2: SPI11N60S5IN-ND; Halogen-free: FALSE; Packing: Tube; Mounting Technology: Through Hole; ComponentLink1Description: Manufacturer URL; ComponentLink1URL: http://www.infineon.com/; ComponentLink2Description: Datasheet; ComponentLink2URL: http://www.infineon.com/dgdl/SPP_I11N60S5_Rev.2.6.pdf?folderId=db3a3043132679fb0113346bdc4505a3&fileId=db3a304318f3fe29011908ce0fe729e0; ComponentLink3Description: Package Specification; ComponentLink3URL: http://www.infineon.com/dgdl/DS_IPX65R420CFD_2_4.pdf?folderId=db3a3043156fd5730115c736bcc70ff2&fileId=db3a30432f91014f012f9c293f1a7399
footprint INF-PG-TO262-3-1_A (FM, 3-Leads, Body 10.03x4.436mm, Pitch 2.54mm)
pins: 1 GATE, 2 DRAIN, 3 SOURCE

## SPI11N65C3
designator Q?
N-Channel CoolMOS Power-Transistor, 650 V VDS, 11 A ID, -55 to 150 degC, PG-TO262-3-1, Tube, Green; Manufacturer: Infineon; PartNumber: SPI11N65C3; Green: TRUE; ID (max): 11 A; IDpuls (max): 33 A; Mode: Enhancement; Polarity: N; Ptot (max): 125 W; QG: 45 nC; RDS (on) (max): 380 mOhm; Rth: 1 K/W; RthJA (max): 62 K/W; VDS (max): 650 V; VGS(th) (max): 3.9 V; VGS(th) (min): 2.1 V; DatasheetVersion: Rev. 2.91; PackageReference: PG-TO262-3-1; PackageDescription: 3-Pin Plastic (Green) Transistor Single Outline Package, 10 x 9.25 mm Body, 2.54 mm Pitch; Supplier 1: Mouser; Supplier Part Number 1: 726-SPI11N65C3; Supplier 2: Digi-Key; Supplier Part Number 2: SPI11N65C3IN-ND; Packing: Tube; RthJC (max): 1 K/W; Technology: CoolMOS C3; Mounting Technology: Through Hole; ComponentLink1Description: Manufacturer URL; ComponentLink1URL: http://www.infineon.com/; ComponentLink2Description: Datasheet; ComponentLink2URL: http://www.infineon.com/dgdl/SPP_A_I11N65C3_Rev.2.91.pdf?folderId=db3a304412b407950112b408e8c90004&fileId=db3a304412b407950112b42ea0964a03; ComponentLink3Description: Package Specification; ComponentLink3URL: http://www.infineon.com/cms/packages/Leaded_and_through-hole/P-PG-TO262/P-PG-TO262-3-1.html?__locale=en
footprint INF-PG-TO262-3-1 (FM, 3-Leads, Body 10x4.4mm, Pitch 2.54mm)
pins: 1 GATE, 2 DRAIN, 3 SOURCE

## SPI12N50C3
designator Q?
N-Channel CoolMOS Power-Transistor, 500 V VDS, 11.6 A ID, -55 to 150 degC, PG-TO262-3-1, Tube, Green; Manufacturer: Infineon; PartNumber: SPI12N50C3; Green: TRUE; ID (max): 11.6 A; IDpuls (max): 34.8 A; Polarity: N; Ptot (max): 125 W; QG: 49 nC; RDS (on) (max): 380 mOhm; Rth: 1 K/W; RthJA (max): 62 K/W; VDS (max): 500 V; VGS(th) (max): 3.9 V; VGS(th) (min): 2.1 V; DatasheetVersion: Rev. 3.1; PackageReference: PG-TO262-3-1; PackageDescription: 3-Pin Plastic (Green) Transistor Single Outline Package, 10 x 9.25 mm Body, 2.54 mm Pitch; Supplier 1: Mouser; Supplier Part Number 1: 726-SPI12N50C3; Supplier 2: Digi-Key; Supplier Part Number 2: SPI12N50C3IN-ND; Packing: Tube; RthJC (max): 1 K/W; Technology: CoolMOS C3; Mounting Technology: Through Hole; ComponentLink1Description: Manufacturer URL; ComponentLink1URL: http://www.infineon.com/; ComponentLink2Description: Datasheet; ComponentLink2URL: http://www.infineon.com/dgdl/SPP_I_A12N50C3_Rev.3.1.pdf?folderId=db3a304412b407950112b408e8c90004&fileId=db3a304412b407950112b42ce34347c8; ComponentLink3Description: Package Specification; ComponentLink3URL: http://www.infineon.com/cms/packages/Leaded_and_through-hole/P-PG-TO262/P-PG-TO262-3-1.html?__locale=en
footprint INF-PG-TO262-3-1 (FM, 3-Leads, Body 10x4.4mm, Pitch 2.54mm)
pins: 1 GATE, 2 DRAIN, 3 SOURCE

## SPI15N60C3
designator Q?
N-Channel CoolMOS Power-Transistor, 600 V VDS, 15 A ID, -55 to 150 degC, PG-TO262-3-1, Tube, Green; Manufacturer: Infineon; PartNumber: SPI15N60C3; Green: TRUE; ID (max): 15 A; IDpuls (max): 45 A; Polarity: N; Ptot (max): 156 W; QG: 63 nC; RDS (on) (max): 280 mOhm; Rth: 0.8 K/W; RthJA (max): 62 K/W; VDS (max): 600 V; VGS(th) (max): 3.9 V; VGS(th) (min): 2.1 V; DatasheetVersion: Rev. 3.2; PackageReference: PG-TO262-3-1; PackageDescription: 3-Pin Plastic (Green) Transistor Single Outline Package, 10 x 9.25 mm Body, 2.54 mm Pitch; Supplier 1: Mouser; Supplier Part Number 1: 726-SPI15N60C3; Supplier 2: Digi-Key; Supplier Part Number 2: SPI15N60C3IN-ND; Packing: Tube; RthJC (max): 0.8 K/W; Technology: CoolMOS C3; Mounting Technology: Through Hole; ComponentLink1Description: Manufacturer URL; ComponentLink1URL: http://www.infineon.com/; ComponentLink2Description: Datasheet; ComponentLink2URL: http://www.infineon.com/dgdl/SPP_I_A15N60C3_Rev%5B1%5D.3.2%2Bnew.pdf?folderId=db3a304412b407950112b408e8c90004&fileId=db3a304412b407950112b42de5af4910; ComponentLink3Description: Package Specification; ComponentLink3URL: http://www.infineon.com/cms/packages/Leaded_and_through-hole/P-PG-TO262/P-PG-TO262-3-1.html?__locale=en
footprint INF-PG-TO262-3-1 (FM, 3-Leads, Body 10x4.4mm, Pitch 2.54mm)
pins: 1 GATE, 2 DRAIN, 3 SOURCE

## SPI15N60CFD
designator Q?
N-Channel CoolMOS Power-Transistor, 600 V VDS, 13.4 A ID, -55 to 150 degC, PG-TO-262-3-1, Tube, Green; Manufacturer: Infineon; PartNumber: SPI15N60CFD; Green: TRUE; ID (max): 13.4 A; IDpuls (max): 33 A; Polarity: N; Ptot (max): 156 W; QG: 63 nC; RDS (on) (max): 330 mOhm; Rth: 0.8 K/W; RthJA (max): 62 K/W; VDS (max): 600 V; VGS(th) (max): 5 V; VGS(th) (min): 3 V; DatasheetVersion: Rev. 1.0; PackageVersion: Jun-05; PackageReference: PG-TO-262-3-1; PackageDescription: 3-Pin Plastic (Green) Transistor Single Outline Package, 10 x 9.25 mm Body, 2.54 mm Pitch; Supplier 1: Mouser; Supplier Part Number 1: 726-SPI15N60CFD; Supplier 2: Newark; Supplier Part Number 2: 33P8212; Supplier 3: Farnell; Supplier Part Number 3: 1664114; Supplier 4: Digi-Key; Supplier Part Number 4: SPI15N60CFD-ND; Packing: Tube; RthJC (max): 0.8 K/W; Technology: CoolMOS CFD; Mounting Technology: Through Hole; ComponentLink1Description: Manufacturer URL; ComponentLink1URL: http://www.infineon.com/; ComponentLink2Description: Datasheet; ComponentLink2URL: http://www.infineon.com/dgdl/SPI15N60CFD_rev1.0_b.pdf?folderId=db3a304412b407950112b408e8c90004&fileId=db3a304412b407950112b42e7cf949d7; ComponentLink3Description: Package Specification; ComponentLink3URL: http://www.infineon.com/dgdl/IPP04CN10N_Rev1.4.pdf?folderId=db3a304313b8b5a60113cee8763b02d7&fileId=db3a30432313ff5e012393a80d1d03d8
footprint INF-PG-TO-262-3-1 (FM, 3-Leads, Body 10x4.4mm, Pitch 2.54mm)
pins: 1 GATE, 2 DRAIN, 3 SOURCE

## SPI15N65C3
designator Q?
N-Channel CoolMOS Power-Transistor, 650 V VDS, 15 A ID, -55 to 150 degC, PG-TO-262-3-1, Tube, Green; Manufacturer: Infineon; PartNumber: SPI15N65C3; Green: TRUE; ID (max): 15 A; IDpuls (max): 45 A; Polarity: N; Ptot (max): 156 W; QG: 63 nC; RDS (on) (max): 280 mOhm; Rth: 0.8 K/W; RthJA (max): 62 K/W; VDS (max): 650 V; VGS(th) (max): 3.9 V; VGS(th) (min): 2.1 V; DatasheetVersion: Rev. 2.0; PackageVersion: Jun-05; PackageReference: PG-TO-262-3-1; PackageDescription: 3-Pin Plastic (Green) Transistor Single Outline Package, 10 x 9.25 mm Body, 2.54 mm Pitch; Supplier 1: Mouser; Supplier Part Number 1: 726-SPI15N65C3; Supplier 2: Digi-Key; Supplier Part Number 2: SPI15N65C3-ND; Packing: Tube; RthJC (max): 0.8 K/W; Technology: CoolMOS C3; Mounting Technology: Through Hole; ComponentLink1Description: Manufacturer URL; ComponentLink1URL: http://www.infineon.com/; ComponentLink2Description: Datasheet; ComponentLink2URL: http://www.infineon.com/dgdl/SPI15N65C3_Rev_2_0.pdf?folderId=db3a304314dca38901152837f87d12ad&fileId=db3a30431689f4420116d3acc8fe0c5a; ComponentLink3Description: Package Specification; ComponentLink3URL: http://www.infineon.com/dgdl/IPP04CN10N_Rev1.4.pdf?folderId=db3a304313b8b5a60113cee8763b02d7&fileId=db3a30432313ff5e012393a80d1d03d8
footprint INF-PG-TO-262-3-1 (FM, 3-Leads, Body 10x4.4mm, Pitch 2.54mm)
pins: 1 GATE, 2 DRAIN, 3 SOURCE

## SPI16N50C3
designator Q?
N-Channel CoolMOS Power-Transistor, 500 V VDS, 16 A ID, -55 to 150 degC, PG-TO262-3-1, Tube, Green; Manufacturer: Infineon; PartNumber: SPI16N50C3; Green: TRUE; ID (max): 16 A; IDpuls (max): 48 A; Polarity: N; Ptot (max): 160 W; QG: 66 nC; RDS (on) (max): 280 mOhm; Rth: 0.78 K/W; RthJA (max): 62 K/W; VDS (max): 500 V; VGS(th) (max): 3.9 V; VGS(th) (min): 2.1 V; DatasheetVersion: Rev. 3.2; PackageReference: PG-TO262-3-1; PackageDescription: 3-Pin Plastic (Green) Transistor Single Outline Package, 10 x 9.25 mm Body, 2.54 mm Pitch; Supplier 1: Mouser; Supplier Part Number 1: 726-SPI16N50C3; Supplier 2: Digi-Key; Supplier Part Number 2: SPI16N50C3IN-ND; Packing: Tube; RthJC (max): 0.78 K/W; Technology: CoolMOS C3; Mounting Technology: Through Hole; ComponentLink1Description: Manufacturer URL; ComponentLink1URL: http://www.infineon.com/; ComponentLink2Description: Datasheet; ComponentLink2URL: http://www.infineon.com/dgdl/SPP_I_A16N50C3_Rev%5B1%5D.3.2%2Bnew.pdf?folderId=db3a304412b407950112b408e8c90004&fileId=db3a304412b407950112b42d175b4803; ComponentLink3Description: Package Specification; ComponentLink3URL: http://www.infineon.com/cms/packages/Leaded_and_through-hole/P-PG-TO262/P-PG-TO262-3-1.html?__locale=en
footprint INF-PG-TO262-3-1 (FM, 3-Leads, Body 10x4.4mm, Pitch 2.54mm)
pins: 1 GATE, 2 DRAIN, 3 SOURCE

## SPI20N60C3
designator Q?
N-Channel CoolMOS Power-Transistor, 600 V VDS, 20.7 A ID, -55 to 150 degC, PG-TO262-3-1, Tube, Green; Manufacturer: Infineon; PartNumber: SPI20N60C3; Green: TRUE; ID (max): 20.7 A; IDpuls (max): 62.1 A; Polarity: N; Ptot (max): 208 W; QG: 87 nC; RDS (on) (max): 190 mOhm; Rth: 0.6 K/W; RthJA (max): 62 K/W; VDS (max): 600 V; VGS(th) (max): 3.9 V; VGS(th) (min): 2.1 V; DatasheetVersion: Rev. 3.2; PackageReference: PG-TO262-3-1; PackageDescription: 3-Pin Plastic (Green) Transistor Single Outline Package, 10 x 9.25 mm Body, 2.54 mm Pitch; Supplier 1: Mouser; Supplier Part Number 1: 726-SPI20N60C3; Supplier 2: Digi-Key; Supplier Part Number 2: SPI20N60C3IN-ND; Packing: Tube; RthJC (max): 0.6 K/W; Technology: CoolMOS C3; Mounting Technology: Through Hole; ComponentLink1Description: Manufacturer URL; ComponentLink1URL: http://www.infineon.com/; ComponentLink2Description: Datasheet; ComponentLink2URL: http://www.infineon.com/dgdl/SPP_I_A20N60C3_Rev3.2.pdf?folderId=db3a304412b407950112b408e8c90004&fileId=db3a304412b407950112b42d841f488f; ComponentLink3Description: Package Specification; ComponentLink3URL: http://www.infineon.com/cms/packages/Leaded_and_through-hole/P-PG-TO262/P-PG-TO262-3-1.html?__locale=en
footprint INF-PG-TO262-3-1 (FM, 3-Leads, Body 10x4.4mm, Pitch 2.54mm)
pins: 1 GATE, 2 DRAIN, 3 SOURCE

## SPI20N60CFD
designator Q?
N-Channel CoolMOS Power-Transistor, 600 V VDS, 20.7 A ID, -55 to 150 degC, PG-TO-262-3-1, Tube, Green; Manufacturer: Infineon; PartNumber: SPI20N60CFD; Green: TRUE; ID (max): 20.7 A; IDpuls (max): 52 A; Polarity: N; Ptot (max): 208 W; QG: 95 nC; RDS (on) (max): 220 mOhm; Rth: 0.6 K/W; RthJA (max): 62 K/W; VDS (max): 600 V; VGS(th) (max): 5 V; VGS(th) (min): 3 V; DatasheetVersion: Rev. 2.5; PackageVersion: Jun-05; PackageReference: PG-TO-262-3-1; PackageDescription: 3-Pin Plastic (Green) Transistor Single Outline Package, 10 x 9.25 mm Body, 2.54 mm Pitch; Supplier 1: Mouser; Supplier Part Number 1: 726-SPI20N60CFD; Supplier 2: Farnell; Supplier Part Number 2: 1664117; Supplier 3: Digi-Key; Supplier Part Number 3: SPI20N60CFD-ND; Packing: Tube; RthJC (max): 0.6 K/W; Technology: CoolMOS CFD; Mounting Technology: Through Hole; ComponentLink1Description: Manufacturer URL; ComponentLink1URL: http://www.infineon.com/; ComponentLink2Description: Datasheet; ComponentLink2URL: http://www.infineon.com/dgdl/SPI20N60CFD_Rev.2.5.pdf?folderId=db3a304412b407950112b408e8c90004&fileId=db3a304412b407950112b42e0754493d; ComponentLink3Description: Package Specification; ComponentLink3URL: http://www.infineon.com/dgdl/IPP04CN10N_Rev1.4.pdf?folderId=db3a304313b8b5a60113cee8763b02d7&fileId=db3a30432313ff5e012393a80d1d03d8
footprint INF-PG-TO-262-3-1 (FM, 3-Leads, Body 10x4.4mm, Pitch 2.54mm)
pins: 1 GATE, 2 DRAIN, 3 SOURCE

## SPI20N65C3
designator Q?
N-Channel CoolMOS Power-Transistor, 650 V VDS, 20.7 A ID, -55 to 150 degC, PG-TO262-3-1, Tube, Green; Manufacturer: Infineon; PartNumber: SPI20N65C3; Green: TRUE; ID (max): 20.7 A; IDpuls (max): 62.1 A; Mode: Enhancement; Polarity: N; Ptot (max): 208 W; QG: 87 nC; RDS (on) (max): 190 mOhm; Rth: 0.6 K/W; RthJA (max): 62 K/W; VDS (max): 650 V; VGS(th) (max): 3.9 V; VGS(th) (min): 2.1 V; DatasheetVersion: Rev. 3.1; PackageReference: PG-TO262-3-1; PackageDescription: 3-Pin Plastic (Green) Transistor Single Outline Package, 10 x 9.25 mm Body, 2.54 mm Pitch; Supplier 1: Mouser; Supplier Part Number 1: 726-SPI20N65C3; Supplier 2: Digi-Key; Supplier Part Number 2: SPI20N65C3IN-ND; Packing: Tube; RthJC (max): 0.6 K/W; Technology: CoolMOS C3; Mounting Technology: Through Hole; ComponentLink1Description: Manufacturer URL; ComponentLink1URL: http://www.infineon.com/; ComponentLink2Description: Datasheet; ComponentLink2URL: http://www.infineon.com/dgdl/SPP_A_I20N65C3_Rev.3.1.pdf?folderId=db3a304412b407950112b408e8c90004&fileId=db3a304412b407950112b42ea4314a07; ComponentLink3Description: Package Specification; ComponentLink3URL: http://www.infineon.com/cms/packages/Leaded_and_through-hole/P-PG-TO262/P-PG-TO262-3-1.html?__locale=en
footprint INF-PG-TO262-3-1 (FM, 3-Leads, Body 10x4.4mm, Pitch 2.54mm)
pins: 1 GATE, 2 DRAIN, 3 SOURCE

## SPI21N50C3
designator Q?
N-Channel CoolMOS Power-Transistor, 500 V VDS, 21 A ID, -55 to 150 degC, PG-TO262-3-1, Tube, Green; Manufacturer: Infineon; PartNumber: SPI21N50C3; Green: TRUE; ID (max): 21 A; IDpuls (max): 63 A; Polarity: N; Ptot (max): 208 W; QG: 95 nC; RDS (on) (max): 190 mOhm; Rth: 0.6 K/W; RthJA (max): 62 K/W; VDS (max): 500 V; VGS(th) (max): 3.9 V; VGS(th) (min): 2.1 V; DatasheetVersion: Rev. 3.2; PackageReference: PG-TO262-3-1; PackageDescription: 3-Pin Plastic (Green) Transistor Single Outline Package, 10 x 9.25 mm Body, 2.54 mm Pitch; Supplier 1: Mouser; Supplier Part Number 1: 726-SPI21N50C3; Supplier 2: Digi-Key; Supplier Part Number 2: SPI21N50C3-ND; Packing: Tube; RthJC (max): 0.6 K/W; Technology: CoolMOS C3; Mounting Technology: Through Hole; ComponentLink1Description: Manufacturer URL; ComponentLink1URL: http://www.infineon.com/; ComponentLink2Description: Datasheet; ComponentLink2URL: http://www.infineon.com/dgdl/SPP_I_A21N50C3_Rev%5B1%5D.3.2%2Bnew.pdf?folderId=db3a304412b407950112b408e8c90004&fileId=db3a304412b407950112b42cf25f47d8; ComponentLink3Description: Package Specification; ComponentLink3URL: http://www.infineon.com/cms/packages/Leaded_and_through-hole/P-PG-TO262/P-PG-TO262-3-1.html?__locale=en
footprint INF-PG-TO262-3-1 (FM, 3-Leads, Body 10x4.4mm, Pitch 2.54mm)
pins: 1 GATE, 2 DRAIN, 3 SOURCE

## SPI80N06S-08
designator Q?
SIPMOS Power-Transistor, 55 V VDS, 80 A ID, PG-TO262-3-1, Tube, Green; Manufacturer: Infineon; PartNumber: SPI80N06S-08; Green: TRUE; ID (max): 80 A; IDpuls (max): 320 A; Ptot (max): 300 W; QG: 125 nC; RDS (on) (max) (@10V): 8 mOhm; RthJC (max): 0.5 K/W; VDS (max): 55 V; VGS(th) (max): 4 V; VGS(th) (min): 2.1 V; DatasheetVersion: Rev. 1.0; PackageReference: PG-TO262-3-1; PackageDescription: 3-Pin Plastic (Green) Transistor Single Outline Package, 10 x 9.25 mm Body, 2.54 mm Pitch; Supplier 1: Digi-Key; Supplier Part Number 1: SPI80N06S-08-ND; Halogen-free: TRUE; Packing: Tube; Technology: SIPMOS; Mounting Technology: Through Hole; ComponentLink1Description: Manufacturer URL; ComponentLink1URL: http://www.infineon.com/; ComponentLink2Description: Datasheet; ComponentLink2URL: http://www.infineon.com/dgdl/SPP_B_I80N06S-08Green.pdf?folderId=db3a304412b407950112b4322c6d574b&fileId=db3a304412b407950112b43242915789&location=en.Products.Automotive_ICs.Automotive_MOSFETs.Single__N-Channel_55V_MOSFETs.DATASHEET.SPP_B_I80N06S-08Green.pdf; ComponentLink3Description: Package Specification; ComponentLink3URL: http://www.infineon.com/cms/packages/Leaded_and_through-hole/P-PG-TO262/P-PG-TO262-3-1.html?__locale=en
footprint INF-PG-TO262-3-1 (FM, 3-Leads, Body 10x4.4mm, Pitch 2.54mm)
pins: 1 GATE, 2 DRAIN, 3 SOURCE

## SPP02N60C3
designator Q?
N-Channel CoolMOS Power-Transistor, 600 V VDS, 1.8 A ID, -55 to 150 degC, PG-TO220-3-1, Tube, Green; Manufacturer: Infineon; PartNumber: SPP02N60C3; Green: TRUE; ID (max): 1.8 A; IDpuls (max): 5.4 A; Polarity: N; Ptot (max): 25 W; QG: 9.5 nC; RDS (on) (max): 3,000 mOhm; Rth: 5 K/W; RthJA (max): 62 K/W; VDS (max): 600 V; VGS(th) (max): 3.9 V; VGS(th) (min): 2.1 V; DatasheetVersion: Rev. 2.7; PackageVersion: Jul-12; PackageReference: PG-TO220-3-1; PackageDescription: 3-Pin Plastic (Green) Transistor Single Outline Package, 10 x 9.25 mm Body, 2.54 mm Pitch; Supplier 1: Mouser; Supplier Part Number 1: 726-SPP02N60C3; Supplier 2: Newark; Supplier Part Number 2: 47W3762; Supplier 3: Farnell; Supplier Part Number 3: 2212914; Supplier 4: Digi-Key; Supplier Part Number 4: SPP02N60C3IN-ND; Packing: Tube; RthJC (max): 5 K/W; Technology: CoolMOS C3; Mounting Technology: Through Hole; ComponentLink1Description: Manufacturer URL; ComponentLink1URL: http://www.infineon.com/; ComponentLink2Description: Datasheet; ComponentLink2URL: http://www.infineon.com/dgdl/SPP02N60C3_Rev.2.7.pdf?folderId=db3a304412b407950112b408e8c90004&fileId=db3a304412b407950112b42d5b09485f; ComponentLink3Description: Package Specification; ComponentLink3URL: http://www.infineon.com/dgdl/BTS117_DS_14.pdf?folderId=db3a30431400ef68011421b54e2e0564&fileId=db3a30433a747525013abff8302d549c&location=en.Products.Automotive_ICs.Smart_High-_and_Low-Side_Switches.HITFET___TEMPFET__-_Smart_Low-Side_Switches.DATASHEET.BTS117_DS_14.pdf
footprint INF-PG-TO220-3-1 (FM, 3-Leads, Body 10x4.4mm, Pitch 2.54mm)
pins: 1 GATE, 2 DRAIN, 3 SOURCE

## SPP02N60S5
designator Q?
Cool MOS Power Transistor, 600 V VDS, 1.8 A ID, PG-TO220-3-1, Tube, Green; Manufacturer: Infineon; PartNumber: SPP02N60S5; Green: TRUE; ID (max): 1.8 A; Polarity: N; RDS (on) (max): 3,000 mOhm; VDS (max): 600 V; DatasheetVersion: Rev. 2.6; PackageVersion: Jul-12; PackageReference: PG-TO220-3-1; PackageDescription: 3-Pin Plastic (Green) Transistor Single Outline Package, 10 x 9.25 mm Body, 2.54 mm Pitch; Supplier 1: Mouser; Supplier Part Number 1: 726-SPP02N60S5; Supplier 2: Digi-Key; Supplier Part Number 2: SPP02N60S5IN-ND; Halogen-free: FALSE; Packing: Tube; Mounting Technology: Through Hole; ComponentLink1Description: Manufacturer URL; ComponentLink1URL: http://www.infineon.com/; ComponentLink2Description: Datasheet; ComponentLink2URL: http://www.infineon.com/dgdl/SPP02N60S5_Rev.2.6.pdf?folderId=db3a304412b407950112b408e8c90004&fileId=db3a304412b407950112b42d65a1486b; ComponentLink3Description: Package Specification; ComponentLink3URL: http://www.infineon.com/dgdl/BTS117_DS_14.pdf?folderId=db3a30431400ef68011421b54e2e0564&fileId=db3a30433a747525013abff8302d549c&location=en.Products.Automotive_ICs.Smart_High-_and_Low-Side_Switches.HITFET___TEMPFET__-_Smart_Low-Side_Switches.DATASHEET.BTS117_DS_14.pdf
footprint INF-PG-TO220-3-1 (FM, 3-Leads, Body 10x4.4mm, Pitch 2.54mm)
pins: 1 GATE, 2 DRAIN, 3 SOURCE